# Altium footprint library B0505S-1W.PcbLib: 1 footprints
Each footprint in its own frame and in the unit in brackets; x right, y up, seen from the top. Pads: shape width x height; smd on the part's side, far side on the other; paste and mask are expansions set on the pad; w line width, h text height; cw(c..) or ccw(c..) is an arc to the next point about the centre after c.
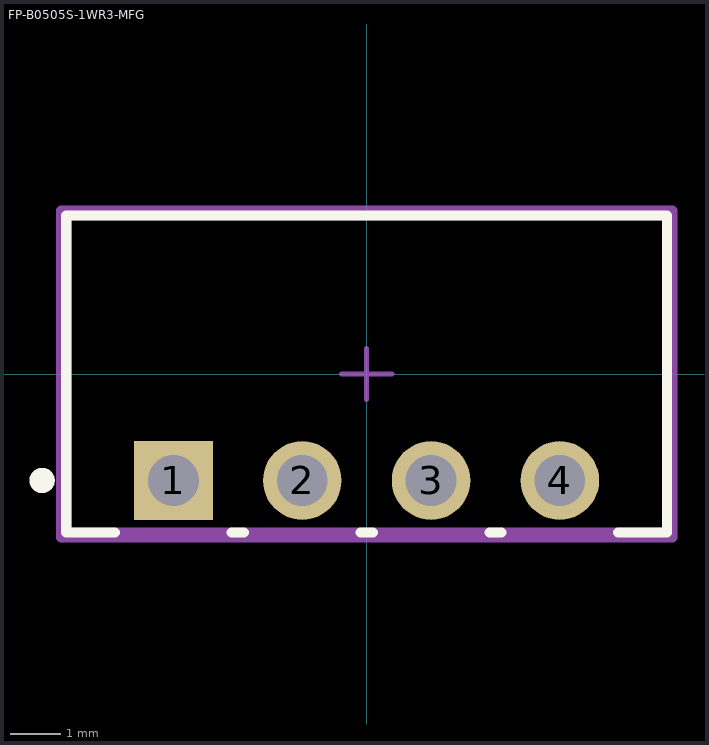
[diagram p0: the footprint, top view; thin cyan lines are the x and y axes]

## FP-B0505S-1WR3-MFG [mm]
pads (4):
  rect 1.55x1.55 hole 1 paste-1000 mask+0: 1(-3.81,-2.1)
  round 1.55 hole 1 paste-1000 mask+0: 2(-1.27,-2.1) 3(1.27,-2.1) 4(3.81,-2.1)
Top Overlay:
  circle w0.25: c-6.4,-2.1 r0.125
  lines w0.2: -4.96,-3.125 -5.925,-3.125 -5.925,3.125 5.925,3.125 5.925,-3.125 4.96,-3.125 ; -2.66,-3.125 -2.42,-3.125 ; -0.12,-3.125 0.12,-3.125 ; 2.42,-3.125 2.66,-3.125
Top Assembly:
  lines w0.2: -6.025,-3.225 -6.025,3.225 6.025,3.225 6.025,-3.225 -6.025,-3.225
  text ".Designator" at 0,0.188 h1
Top 3D Body:
  lines w0.2: -5.925,-3.125 -5.925,3.125 5.925,3.125 5.925,-3.125 -5.925,-3.125
Top Courtyard:
  lines w0.2: -6.025,-3.225 -6.025,3.225 6.025,3.225 6.025,-3.225 -6.025,-3.225
Top Component Center:
  lines w0.1: -0.5,0 0.5,0 ; 0,-0.5 0,0.5
3D body "IC_MORNSUN_B0505S-1WR3_eec.STEP": height 0.25, standoff 0, extent -6.025,-3.225 6.025,3.225